# EAGLE library part XC9572XL-VQ64 (library XC9500XLneu)
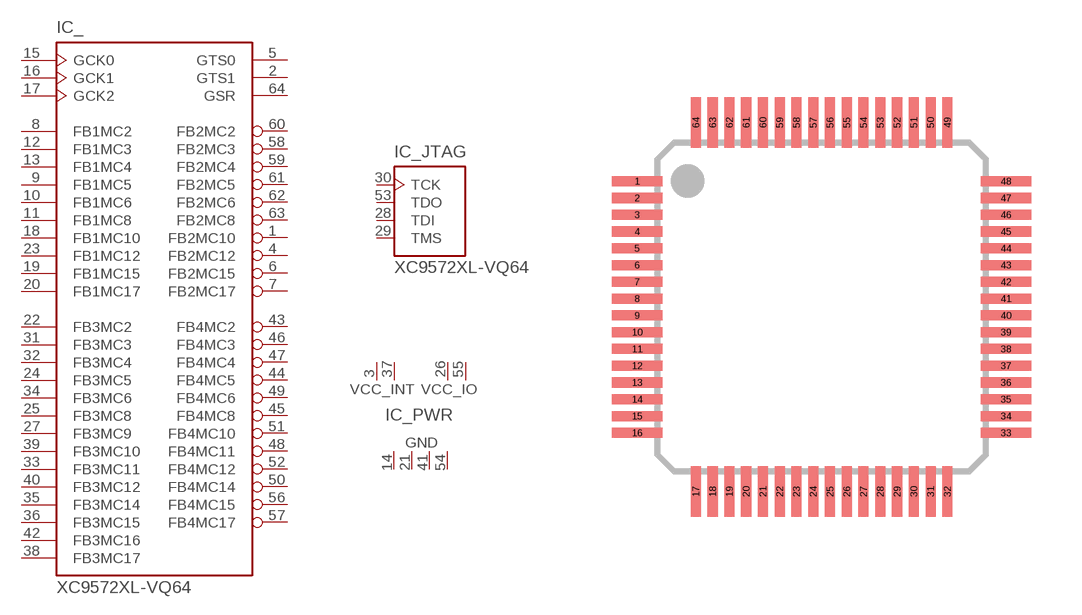
[diagram p7: symbol with the pads of VQ64; footprint VQ64]

Designator prefix IC; gates _=XC9572XL-VQ64 _PWR=XC9572XL-VQ64_PWR _JTAG=JTAG

## XC9572XL-VQ64  [VQ64]
1  _:FB2MC10
2  _:GTS1  in
3  _PWR:VCC_INT  pwr
4  _:FB2MC12
5  _:GTS0  in
6  _:FB2MC15
7  _:FB2MC17
8  _:FB1MC2
9  _:FB1MC5
10  _:FB1MC6
11  _:FB1MC8
12  _:FB1MC3
13  _:FB1MC4
14  _PWR:GND  pwr
15  _:GCK0  in
16  _:GCK1  in
17  _:GCK2  in
18  _:FB1MC10
19  _:FB1MC15
20  _:FB1MC17
21  _PWR:GND  pwr
22  _:FB3MC2
23  _:FB1MC12
24  _:FB3MC5
25  _:FB3MC8
26  _PWR:VCC_IO  pwr
27  _:FB3MC9
28  _JTAG:TDI  in
29  _JTAG:TMS  in
30  _JTAG:TCK  in
31  _:FB3MC3
32  _:FB3MC4
33  _:FB3MC11
34  _:FB3MC6
35  _:FB3MC14
36  _:FB3MC15
37  _PWR:VCC_INT  pwr
38  _:FB3MC17
39  _:FB3MC10
40  _:FB3MC12
41  _PWR:GND  pwr
42  _:FB3MC16
43  _:FB4MC2
44  _:FB4MC5
45  _:FB4MC8
46  _:FB4MC3
47  _:FB4MC4
48  _:FB4MC11
49  _:FB4MC6
50  _:FB4MC14
51  _:FB4MC10
52  _:FB4MC12
53  _JTAG:TDO  out
54  _PWR:GND  pwr
55  _PWR:VCC_IO  pwr
56  _:FB4MC15
57  _:FB4MC17
58  _:FB2MC3
59  _:FB2MC4
60  _:FB2MC2
61  _:FB2MC5
62  _:FB2MC6
63  _:FB2MC8
64  _:GSR  in

## Footprint VQ64 (pad centres in mm)
smd 1.5 x 0.3: 1 -5.5,3.75; 2 -5.5,3.25; 3 -5.5,2.75; 4 -5.5,2.25; 5 -5.5,1.75; 6 -5.5,1.25; 7 -5.5,0.75; 8 -5.5,0.25; 9 -5.5,-0.25; 10 -5.5,-0.75; 11 -5.5,-1.25; 12 -5.5,-1.75; 13 -5.5,-2.25; 14 -5.5,-2.75; 15 -5.5,-3.25; 16 -5.5,-3.75; 33 5.5,-3.75; 34 5.5,-3.25; 35 5.5,-2.75; 36 5.5,-2.25; 37 5.5,-1.75; 38 5.5,-1.25; 39 5.5,-0.75; 40 5.5,-0.25; 41 5.5,0.25; 42 5.5,0.75; 43 5.5,1.25; 44 5.5,1.75; 45 5.5,2.25; 46 5.5,2.75; 47 5.5,3.25; 48 5.5,3.75
smd 0.3 x 1.5: 17 -3.75,-5.5; 18 -3.25,-5.5; 19 -2.75,-5.5; 20 -2.25,-5.5; 21 -1.75,-5.5; 22 -1.25,-5.5; 23 -0.75,-5.5; 24 -0.25,-5.5; 25 0.25,-5.5; 26 0.75,-5.5; 27 1.25,-5.5; 28 1.75,-5.5; 29 2.25,-5.5; 30 2.75,-5.5; 31 3.25,-5.5; 32 3.75,-5.5; 49 3.75,5.5; 50 3.25,5.5; 51 2.75,5.5; 52 2.25,5.5; 53 1.75,5.5; 54 1.25,5.5; 55 0.75,5.5; 56 0.25,5.5; 57 -0.25,5.5; 58 -0.75,5.5; 59 -1.25,5.5; 60 -1.75,5.5; 61 -2.25,5.5; 62 -2.75,5.5; 63 -3.25,5.5; 64 -3.75,5.5